# Altium footprint library FootPrintLib_4.PcbLib: 700 footprints (part 32 of 44)
Each footprint in its own frame and in the unit in brackets; x right, y up, seen from the top. Pads: shape width x height; smd on the part's side, far side on the other; paste and mask are expansions set on the pad; w line width, h text height; cw(c..) or ccw(c..) is an arc to the next point about the centre after c.
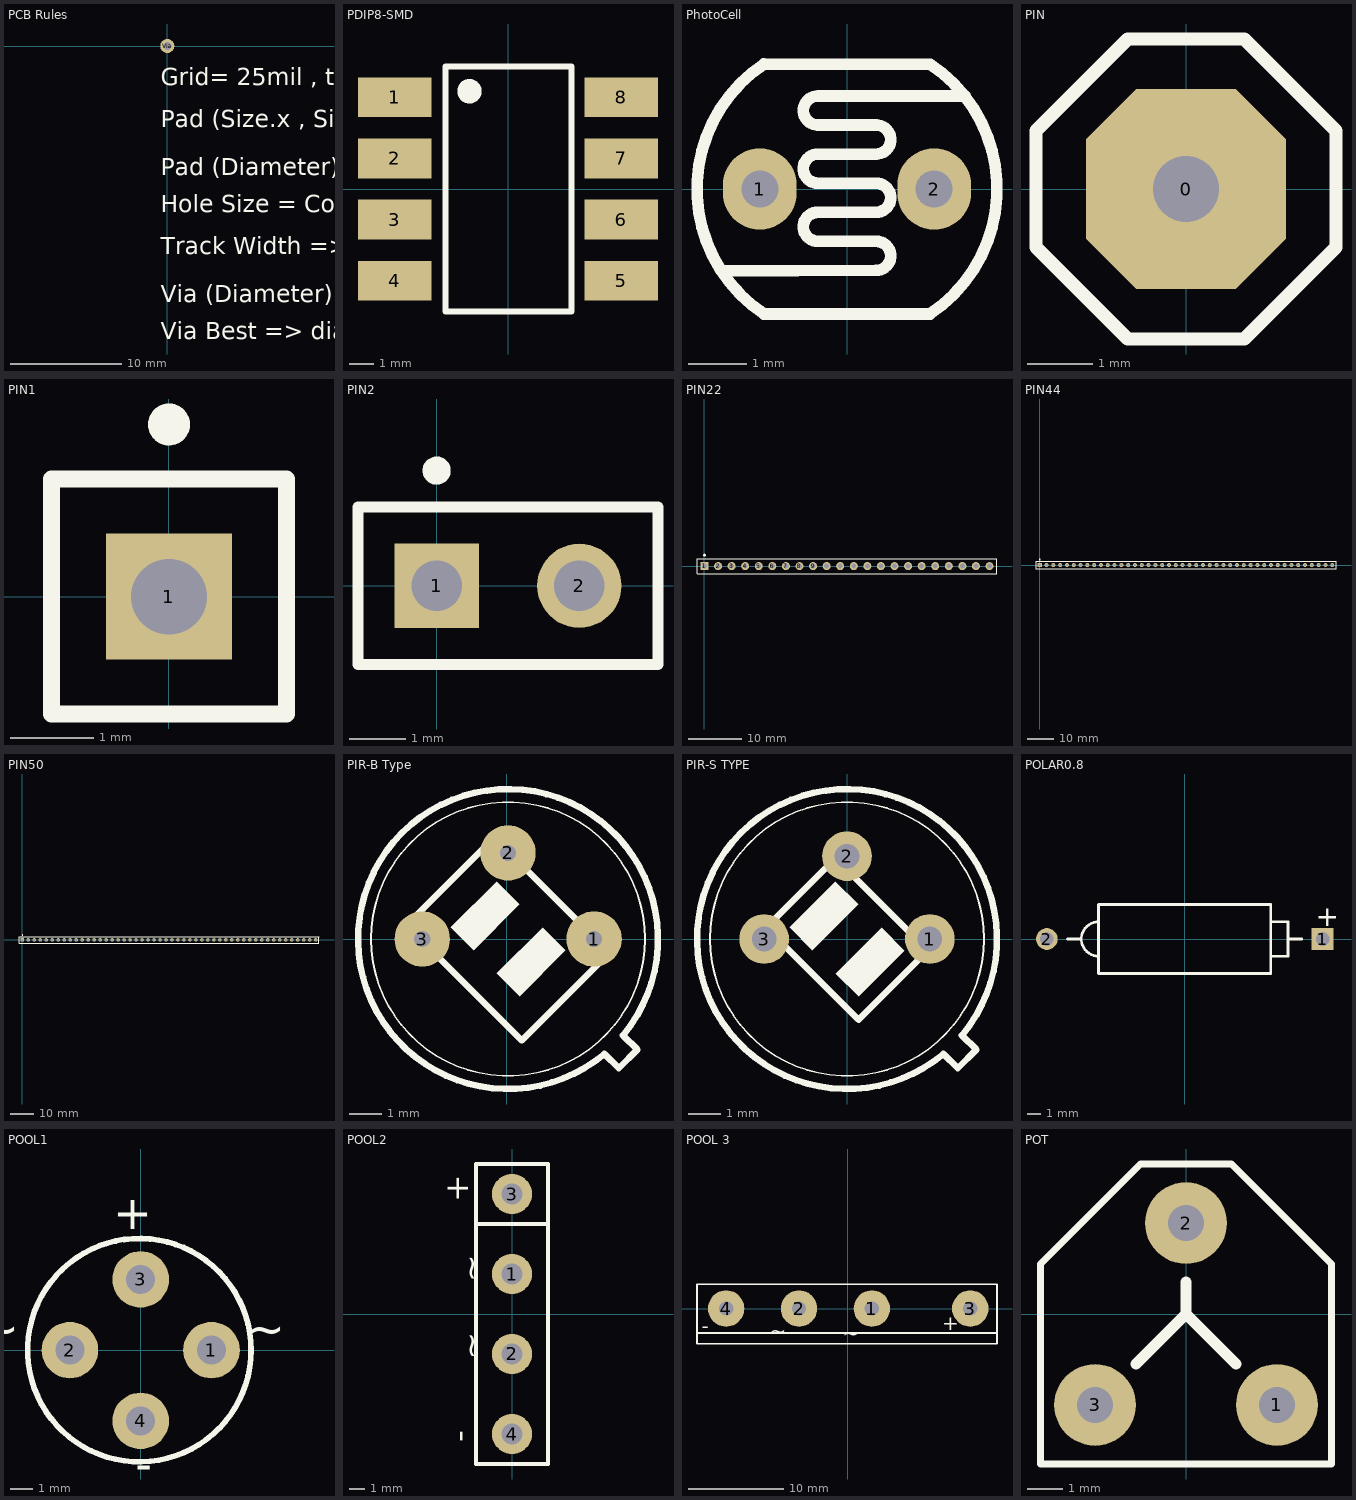
[diagram p31: the footprints below, top view; thin cyan lines are the x and y axes]

## PCB Rules [mil]
pads (1):
  round 50 hole 28: Via(0,0)
Top Overlay:
  text "Grid= 25mil , the best= 50mil , Clearance= 10mil" at -23,-138 h60
  text "Pad (Size.x , Size.y) = (60-60) , (60-80) , (70-90)" at -23,-287.5 h60
  text "Pad (Diameter)= Hole Size + 25mil" at -23,-456.99 h60
  text "Hole Size = Component Lead + 10" at -23,-586.5 h60
  text "Track Width => min= 10-15mil  ,  good= 20-50mil" at -23,-736 h60
  text "Via (Diameter) = Hole Size +25" at -23,-905.49 h60
  text "Via Best => diameter= 55mil  , hole size= 30mil" at -23,-1035 h60

## PDIP8-SMD [mil] "DIP8 SMD Package"
pads (8):
  rect 120x65 smd: 1(-185,150) 2(-185,50) 3(-185,-50) 4(-185,-150) 5(185,-150) 6(185,-50) 7(185,50) 8(185,150)
Top Overlay:
  circle w20: c-62.92,159.64 r10
  lines w10: -102,-200 -102,200 104,200 104,-200 -102,-200
3D body "SW3dPS-pdip8-smd.STEP": height 200, standoff 0, extent -202.75,-195.08 202.76,195.08

## PhotoCell [mm]
pads (2):
  oval 1.27x1.397 hole 0.635: 1(-1.5,0) 2(1.5,0)
Top Overlay:
  lines w0.2: -2.16,-1.41 0.5,-1.4 ccw(c0.502,-1.15) 0.501,-0.9 -0.5,-0.9 cw(c-0.502,-0.65) -0.5,-0.4 0.5,-0.4 ccw(c0.502,-0.15) 0.501,0.1 -0.5,0.1 cw(c-0.502,0.35) -0.5,0.6 0.5,0.6 ccw(c0.502,0.85) 0.501,1.1 -0.499,1.1 ; -1.43,-2.15 1.429,-2.15 ; -1.43,2.15 1.429,2.148 cw(c0,0) 1.428,-2.149 ; -1.429,-2.148 cw(c0,0) -1.429,2.148 ; -0.5,1.1 cw(c-0.501,1.35) -0.499,1.6 2.03,1.6
3D body "LDR.STEP": height 2.44, standoff -2.3, extent -2.605,-2.159 2.605,2.141

## PIN [mil]
pads (1):
  oct 120x120 hole 39.37: 0(0,0)
Top Overlay:
  lines w8: -90,-35 -90,35 -35,90 35,90 90,35 90,-35 35,-90 -35,-90 -90,-35

## PIN1 [mm] "Connector; Plug"
pads (1):
  rect 1.5x1.5 hole 0.9: 1(0,0)
Top Overlay:
  circle w0.25: c0,2.05 r0.125
  lines w0.2: -1.4,-1.4 -1.4,1.4 1.4,1.4 1.4,-1.4 -1.4,-1.4

## PIN2 [mm] "Photosensitive Diode; 2 Leads"
pads (2):
  rect 1.5x1.5 hole 0.9: 1(0,0)
  round 1.5 hole 0.9: 2(2.54,0)
Top Overlay:
  circle w0.25: c0,2.05 r0.125
  lines w0.2: -1.4,-1.4 -1.4,1.4 3.94,1.4 3.94,-1.4 -1.4,-1.4

## PIN22 [mm] "Connector; Edge; 22 Position"
pads (22):
  rect 1.5x1.5 hole 0.9: 1(0,0)
  round 1.5 hole 0.9: 2(2.54,0) 3(5.08,0) 4(7.62,0) 5(10.16,0) 6(12.7,0) 7(15.24,0) 8(17.78,0) 10(22.86,0) 11(25.4,0) 12(27.94,0) 13(30.48,0) 14(33.02,0) 15(35.56,0) 16(38.1,0) 17(40.64,0) 18(43.18,0) 19(45.72,0) 20(48.26,0) 21(50.8,0) 22(53.34,0)
  oval 1.51x1.5 hole 0.9: 9(20.32,0)
Top Overlay:
  circle w0.25: c0,2.05 r0.125
  lines w0.2: -1.4,-1.4 54.74,-1.4 54.74,1.4 -1.4,1.4 -1.4,-1.4

## PIN44 [mm] "Connector; Edge; 44 Position"
pads (44):
  rect 1.5x1.5 hole 0.9: 1(0,0)
  round 1.5 hole 0.9: 2(2.54,0) 3(5.08,0) 4(7.62,0) 5(10.16,0) 6(12.7,0) 7(15.24,0) 8(17.78,0) 10(22.86,0) 11(25.4,0) 12(27.94,0) 13(30.48,0) 14(33.02,0) 15(35.56,0) 16(38.1,0) 17(40.64,0) 18(43.18,0) 19(45.72,0) 20(48.26,0) 21(50.8,0) 22(53.34,0) 23(55.88,0) 24(58.42,0) 25(60.96,0) 26(63.5,0) 27(66.04,0) 28(68.58,0) 29(71.12,0) 30(73.66,0) 31(76.2,0) 32(78.74,0) 33(81.28,0) 34(83.82,0) 35(86.36,0) 36(88.9,0) 37(91.44,0) 38(93.98,0) 39(96.52,0) 40(99.06,0) 41(101.6,0) 42(104.14,0) 43(106.68,0) 44(109.22,0)
  oval 1.51x1.5 hole 0.9: 9(20.32,0)
Top Overlay:
  circle w0.25: c0,2.05 r0.125
  lines w0.2: -1.4,-1.4 110.62,-1.4 110.62,1.4 -1.4,1.4 -1.4,-1.4

## PIN50 [mm] "Connector; Edge; 50 Position"
pads (50):
  rect 1.5x1.5 hole 0.9: 1(0,0)
  round 1.5 hole 0.9: 2(2.54,0) 3(5.08,0) 4(7.62,0) 5(10.16,0) 6(12.7,0) 7(15.24,0) 8(17.78,0) 9(20.32,0) 10(22.86,0) 11(25.4,0) 12(27.94,0) 13(30.48,0) 14(33.02,0) 15(35.56,0) 16(38.1,0) 17(40.64,0) 18(43.18,0) 19(45.72,0) 20(48.26,0) 22(53.34,0) 23(55.88,0) 24(58.42,0) 25(60.96,0) 26(63.5,0) 27(66.04,0) 28(68.58,0) 29(71.12,0) 30(73.66,0) 31(76.2,0) 32(78.74,0) 33(81.28,0) 34(83.82,0) 35(86.36,0) 36(88.9,0) 37(91.44,0) 38(93.98,0) 39(96.52,0) 40(99.06,0) 41(101.6,0) 42(104.14,0) 43(106.68,0) 44(109.22,0) 45(111.76,0) 46(114.3,0) 47(116.84,0) 48(119.38,0) 49(121.92,0) 50(124.46,0)
  oval 1.51x1.5 hole 0.9: 21(50.8,0)
Top Overlay:
  circle w0.25: c0,2.05 r0.125
  lines w0.2: -1.4,-1.4 125.86,-1.4 125.86,1.4 -1.4,1.4 -1.4,-1.4

## PIR-B Type [mm] "For D203B and D204B PIR Sensors"
height 4.7
pads (3):
  round 1.7 hole 0.5: 1(2.68,0) 2(0.04,2.64) 3(-2.59,0)
Top Overlay:
  circle w0.05: c0.04,0 r4.2
  region: -0.309,1.772 -1.723,0.358 -1.016,-0.349 0.398,1.065
  region: 1.105,0.358 -0.309,-1.056 0.398,-1.763 1.812,-0.349
  lines w0.2: -3.071,0.424 0.464,-3.111 3.151,-0.424 -0.384,3.111 -3.071,0.424 ; 2.997,-3.524 cw(c0.04,0) 3.564,-2.957 4.01,-3.39 3.44,-3.96 2.997,-3.524

## PIR-S TYPE [mil] "For D203S and D204S PIR Sensors"
height 185.04
pads (3):
  round 60 hole 30: 1(100,0) 2(0,100) 3(-100,0)
Top Overlay:
  circle w1.97: c0,0 r165.35
  region: -13.92,69.6 -69.6,13.92 -41.76,-13.92 13.92,41.76
  region: 41.76,13.92 -13.92,-41.76 13.92,-69.6 69.59,-13.92
  lines w7.87: -97.44,13.92 13.92,-97.44 97.44,-13.92 -13.92,97.44 -97.44,13.92 ; 116.41,-138.73 cw(c0,0) 138.73,-116.41 156.3,-133.46 133.86,-155.91 116.41,-138.73
Mechanical 1:
  lines w7.87: 138.67,-116.36 139.19,-116.36
3D body "PIR_S_Orginal.STEP": height 185.04, standoff -78.74, extent -178.63,-177.59 179.64,179.49

## POLAR0.8 [mm] "Polarized Capacitor; 2 Leads"
height 5.08
pads (2):
  rect 1.6x1.6 hole 1: 1(10.16,0)
  round 1.6 hole 1: 2(-10.16,0)
Top Overlay:
  lines w0.2: -8.636,0 -7.62,0 ; -6.35,-1.27 cw(c-6.35,0) -6.35,1.27 ; 6.35,-1.27 7.62,-1.27 7.62,1.27 6.35,1.27 ; 7.62,0 8.636,0 ; -6.35,-2.54 6.35,-2.54 6.35,2.54 -6.35,2.54 -6.35,-2.54
  text "+" at 9.652,0.95 h1.5

## POOL1 [mm]
pads (4):
  round 2.54 hole 1.3: 1(3.175,0) 2(-3.175,0) 3(0,3.175) 4(0,-3.175)
Top Overlay:
  circle w0.254: c-0.06,0 r5.013
  text "-" at 0.508,-4.699 h1.52
  text "+" at 0.508,6.731 h1.52
  text "~" at 6.477,1.524 h1.52
  text "~" at -5.461,1.524 h1.52

## POOL2 [mm]
pads (4):
  round 2.54 hole 1.347: 1(0,2.54) 2(0,-2.54) 3(0,7.62) 4(0,-7.62)
Top Overlay:
  lines w0.254: -2.286,5.715 2.286,5.715 ; -2.286,-9.525 2.286,-9.525 2.286,9.525 -2.286,9.525 -2.286,-9.525
  text "+" at -2.794,7.112 h1.52
  text "~" at -1.905,2.032 h1.52
  text "~" at -1.905,-2.921 h1.52
  text "-" at -2.667,-8.128 h1.52

## POOL 3 [mm]
pads (4):
  round 3.81 hole 1.5: 1(2.54,0) 2(-5.08,0) 3(12.827,0) 4(-12.7,0)
Top Overlay:
  lines w0.203: -15.748,-2.54 -15.748,-3.683 15.621,-3.683 15.621,-2.54 ; -15.748,-2.54 15.621,-2.54 ; -15.748,-2.54 -15.748,2.54 15.621,2.54 15.621,-2.54
  text "+" at 9.906,-2.286 h1.52
  text "-" at -15.24,-2.54 h1.52
  text "~" at -0.508,-3.302 h1.52
  text "~" at -8.128,-3.048 h1.52

## POT [mil]
pads (3):
  round 90 hole 39.37: 1(100,-100) 2(0,100) 3(-100,-100)
Top Overlay:
  lines w8: -160,-165 -160,55 -50,165 0,165 50,165 160,55 160,-165 0,-165 -160,-165
  lines w12: -55,-55 0,0 ; 0,35 0,0 ; 55,-55 0,0